# Altium integrated library TI Logic Boundary Scan.IntLib: 169 symbols (part 5 of 5)
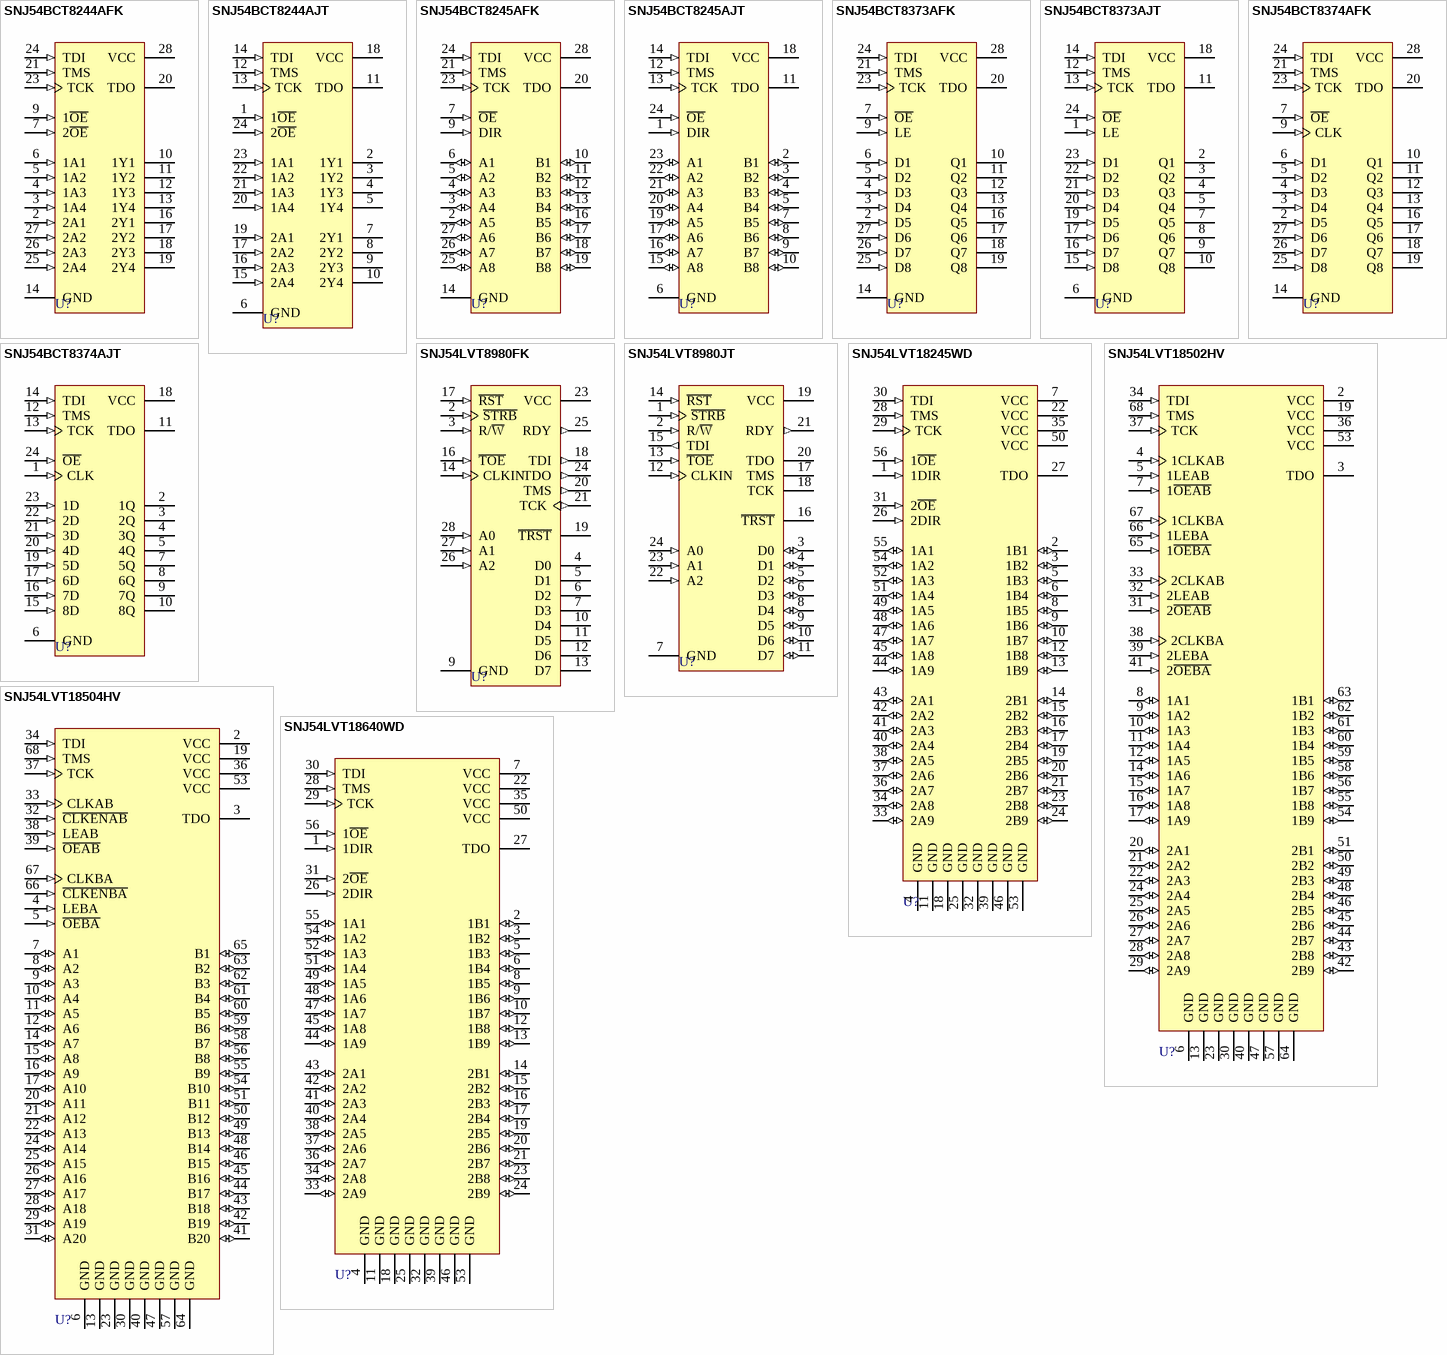
[diagram p16: symbols SNJ54BCT8244AFK to SNJ54LVT18640WD]

## SNJ54LVT18640WD
designator U?
3.3-V ABT Scan Test Device with 18-Bit Inverting Bus Transceiver; Published: 8-Jun-2000; LatestRevisionDate: 06-Jun-2005; LatestRevisionNote: Stylized 3D Model Added.; DatasheetVersion: Aug-1994; PackageVersion: Jan-1998; PackageReference: WD056; Publisher: Altium Limited; PackageDescription: DFP; 56 Leads; Body 18.8 x 9.9 mm (LxW max); Pitch 0.635 mm; Code_JEDEC: MO-146-AB; ComponentLink1Description: Manufacturer Link; ComponentLink1URL: http://www.ti.com/
footprint WD056 (DFP; 56 Leads; Body 18.8 x 9.9 mm (LxW max); Pitch 0.635 mm)
3D model WD056 (DFP; 56 Leads; Body 18.8 x 9.9 mm (LxW max); Pitch 0.635 mm)
signal-integrity model SNJ54LVT18640WD
pins: 1 1DIR (in), 2 1B1 (io), 3 1B2 (io), 4 GND (power), 5 1B3 (io), 6 1B4 (io), 7 VCC (power), 8 1B5 (io), 9 1B6 (io), 10 1B7 (io), 11 GND (power), 12 1B8 (io), 13 1B9 (io), 14 2B1 (io), 15 2B2 (io), 16 2B3 (io), 17 2B4 (io), 18 GND (power), 19 2B5 (io), 20 2B6 (io), 21 2B7 (io), 22 VCC (power), 23 2B8 (io), 24 2B9 (io), 25 GND (power), 26 2DIR (in), 27 TDO (hiz), 28 TMS (in), 29 TCK (in), 30 TDI (in), 31 2~{OE} (in), 32 GND (power), 33 2A9 (io), 34 2A8 (io), 35 VCC (power), 36 2A7 (io), 37 2A6 (io), 38 2A5 (io), 39 GND (power), 40 2A4 (io), 41 2A3 (io), 42 2A2 (io), 43 2A1 (io), 44 1A9 (io), 45 1A8 (io), 46 GND (power), 47 1A7 (io), 48 1A6 (io), 49 1A5 (io), 50 VCC (power), 51 1A4 (io), 52 1A3 (io), 53 GND (power), 54 1A2 (io), 55 1A1 (io), 56 1~{OE} (in)

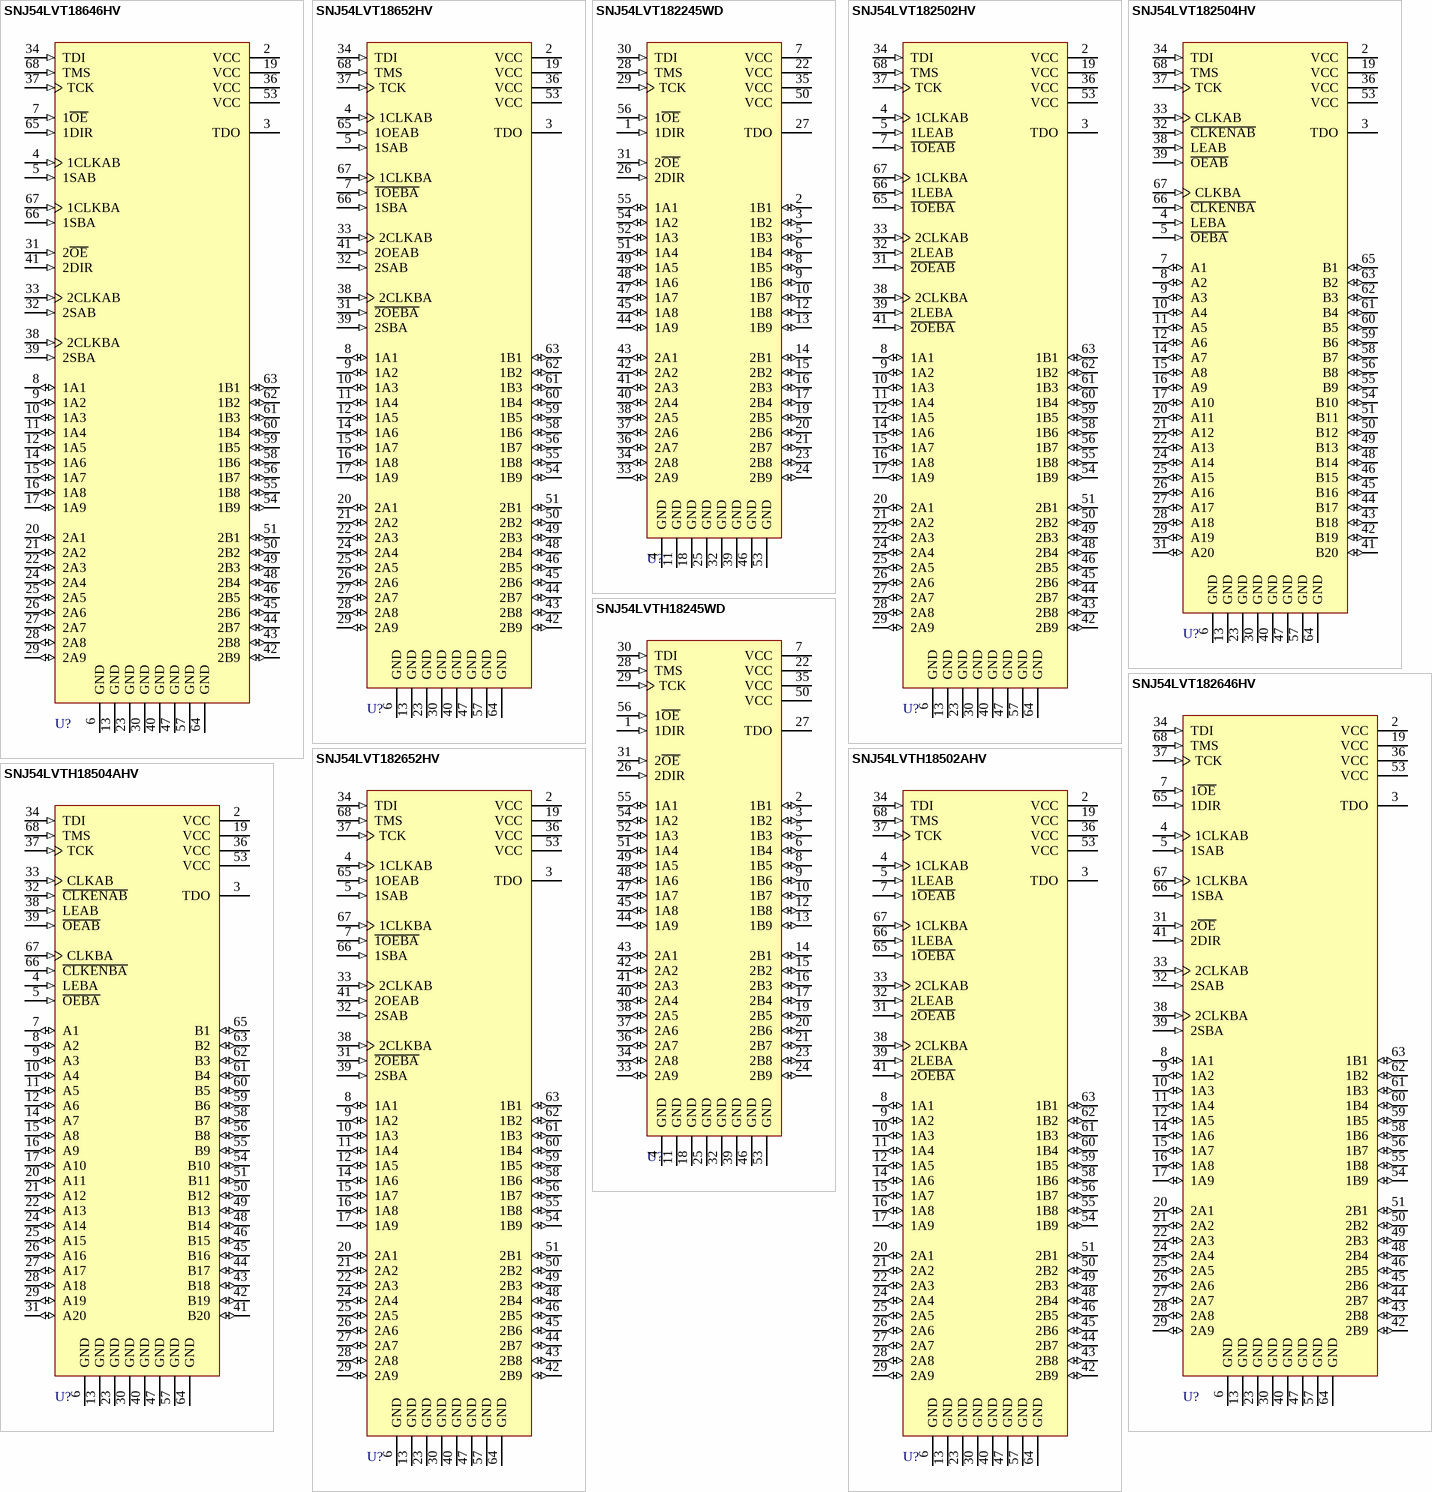
[diagram p10: symbols SNJ54LVT18646HV to SNJ54LVTH18504AHV]

## SNJ54LVT18646HV
designator U?
3.3-V ABT Scan Test Device with 18-Bit Transceiver and Register; Note: Pins 1, 18, 35 and 52 - No Connection and not drawn; Published: 8-Jun-2000; LatestRevisionDate: 13-Apr-2006; LatestRevisionNote: IPC-7351 Footprint Added.; DatasheetVersion: Jul-1994; PackageVersion: Oct-1996; PackageReference: HV068C; Publisher: Altium Limited; PackageDescription: 68-Pin Ceramic Quad Flat Pack 0.635 mm Pitch; ComponentLink1Description: Manufacturer Link; ComponentLink1URL: http://www.ti.com/
footprint HV068C_N (CQFP, 68-Leads, Body 12.5x12.5mm; Pitch 0.635mm, Gullwing Leadform, IPC Medium Density)
footprint HV068C_L (CQFP, 68-Leads, Body 12.5x12.5mm; Pitch 0.635mm, Gullwing Leadform, IPC High Density)
footprint HV068C_M (CQFP, 68-Leads, Body 12.5x12.5mm; Pitch 0.635mm, Gullwing Leadform, IPC Low Density)
3D model SNJ54LVT18646-HV068 (68-Pin Ceramic Quad Flat Pack 0.635 mm Pitch)
signal-integrity model SNJ54LVT18646HV
pins: 2 VCC (power), 3 TDO (hiz), 4 1CLKAB (in), 5 1SAB (in), 6 GND (power), 7 1~{OE} (in), 8 1A1 (io), 9 1A2 (io), 10 1A3 (io), 11 1A4 (io), 12 1A5 (io), 13 GND (power), 14 1A6 (io), 15 1A7 (io), 16 1A8 (io), 17 1A9 (io), 19 VCC (power), 20 2A1 (io), 21 2A2 (io), 22 2A3 (io), 23 GND (power), 24 2A4 (io), 25 2A5 (io), 26 2A6 (io), 27 2A7 (io), 28 2A8 (io), 29 2A9 (io), 30 GND (power), 31 2~{OE} (in), 32 2SAB (in), 33 2CLKAB (in), 34 TDI (in), 36 VCC (power), 37 TCK (in), 38 2CLKBA (in), 39 2SBA (in), 40 GND (power), 41 2DIR (in), 42 2B9 (io), 43 2B8 (io), 44 2B7 (io), 45 2B6 (io), 46 2B5 (io), 47 GND (power), 48 2B4 (io), 49 2B3 (io), 50 2B2 (io), 51 2B1 (io), 53 VCC (power), 54 1B9 (io), 55 1B8 (io), 56 1B7 (io), 57 GND (power), 58 1B6 (io), 59 1B5 (io), 60 1B4 (io), 61 1B3 (io), 62 1B2 (io), 63 1B1 (io), 64 GND (power), 65 1DIR (in), 66 1SBA (in), 67 1CLKBA (in), 68 TMS (in)

## SNJ54LVT18652HV
designator U?
3.3-V ABT Scan Test Device with 18-Bit Transceivers and Registers; Note: Pins 1, 18, 35 and 52 - No Connection and not drawn; Published: 8-Jun-2000; LatestRevisionDate: 13-Apr-2006; LatestRevisionNote: IPC-7351 Footprint Added.; DatasheetVersion: Jul-1994; PackageVersion: Oct-1996; PackageReference: HV068C; Publisher: Altium Limited; PackageDescription: 68-Pin Ceramic Quad Flat Pack 0.635 mm Pitch; ComponentLink1Description: Manufacturer Link; ComponentLink1URL: http://www.ti.com/
footprint HV068C_N (CQFP, 68-Leads, Body 12.5x12.5mm; Pitch 0.635mm, Gullwing Leadform, IPC Medium Density)
footprint HV068C_L (CQFP, 68-Leads, Body 12.5x12.5mm; Pitch 0.635mm, Gullwing Leadform, IPC High Density)
footprint HV068C_M (CQFP, 68-Leads, Body 12.5x12.5mm; Pitch 0.635mm, Gullwing Leadform, IPC Low Density)
3D model SNJ54LVT18652-HV068 (68-Pin Ceramic Quad Flat Pack 0.635 mm Pitch)
signal-integrity model SNJ54LVT18652HV
pins: 2 VCC (power), 3 TDO (hiz), 4 1CLKAB (in), 5 1SAB (in), 6 GND (power), 7 ~{1OEBA} (in), 8 1A1 (io), 9 1A2 (io), 10 1A3 (io), 11 1A4 (io), 12 1A5 (io), 13 GND (power), 14 1A6 (io), 15 1A7 (io), 16 1A8 (io), 17 1A9 (io), 19 VCC (power), 20 2A1 (io), 21 2A2 (io), 22 2A3 (io), 23 GND (power), 24 2A4 (io), 25 2A5 (io), 26 2A6 (io), 27 2A7 (io), 28 2A8 (io), 29 2A9 (io), 30 GND (power), 31 ~{2OEBA} (in), 32 2SAB (in), 33 2CLKAB (in), 34 TDI (in), 36 VCC (power), 37 TCK (in), 38 2CLKBA (in), 39 2SBA (in), 40 GND (power), 41 2OEAB (in), 42 2B9 (io), 43 2B8 (io), 44 2B7 (io), 45 2B6 (io), 46 2B5 (io), 47 GND (power), 48 2B4 (io), 49 2B3 (io), 50 2B2 (io), 51 2B1 (io), 53 VCC (power), 54 1B9 (io), 55 1B8 (io), 56 1B7 (io), 57 GND (power), 58 1B6 (io), 59 1B5 (io), 60 1B4 (io), 61 1B3 (io), 62 1B2 (io), 63 1B1 (io), 64 GND (power), 65 1OEAB (in), 66 1SBA (in), 67 1CLKBA (in), 68 TMS (in)

## SNJ54LVT182245WD
designator U?
3.3-V ABT Scan Test Device with 18-Bit Bus Transceiver; Published: 8-Jun-2000; LatestRevisionDate: 06-Jun-2005; LatestRevisionNote: Stylized 3D Model Added.; DatasheetVersion: Aug-1994; PackageVersion: Jan-1998; PackageReference: WD056; Publisher: Altium Limited; PackageDescription: DFP; 56 Leads; Body 18.8 x 9.9 mm (LxW max); Pitch 0.635 mm; Code_JEDEC: MO-146-AB; ComponentLink1Description: Manufacturer Link; ComponentLink1URL: http://www.ti.com/
footprint WD056 (DFP; 56 Leads; Body 18.8 x 9.9 mm (LxW max); Pitch 0.635 mm)
3D model WD056 (DFP; 56 Leads; Body 18.8 x 9.9 mm (LxW max); Pitch 0.635 mm)
signal-integrity model SNJ54LVT182245WD
pins: 1 1DIR (in), 2 1B1 (io), 3 1B2 (io), 4 GND (power), 5 1B3 (io), 6 1B4 (io), 7 VCC (power), 8 1B5 (io), 9 1B6 (io), 10 1B7 (io), 11 GND (power), 12 1B8 (io), 13 1B9 (io), 14 2B1 (io), 15 2B2 (io), 16 2B3 (io), 17 2B4 (io), 18 GND (power), 19 2B5 (io), 20 2B6 (io), 21 2B7 (io), 22 VCC (power), 23 2B8 (io), 24 2B9 (io), 25 GND (power), 26 2DIR (in), 27 TDO (hiz), 28 TMS (in), 29 TCK (in), 30 TDI (in), 31 2~{OE} (in), 32 GND (power), 33 2A9 (io), 34 2A8 (io), 35 VCC (power), 36 2A7 (io), 37 2A6 (io), 38 2A5 (io), 39 GND (power), 40 2A4 (io), 41 2A3 (io), 42 2A2 (io), 43 2A1 (io), 44 1A9 (io), 45 1A8 (io), 46 GND (power), 47 1A7 (io), 48 1A6 (io), 49 1A5 (io), 50 VCC (power), 51 1A4 (io), 52 1A3 (io), 53 GND (power), 54 1A2 (io), 55 1A1 (io), 56 1~{OE} (in)

## SNJ54LVT182502HV
designator U?
3.3-V ABT Scan Test Device with 18-Bit Universal Bus Transceiver; Note: Pins 1, 18, 35 and 52 - No Connection and not drawn; Published: 8-Jun-2000; LatestRevisionDate: 13-Apr-2006; LatestRevisionNote: IPC-7351 Footprint Added.; DatasheetVersion: Jul-1994; PackageVersion: Oct-1996; PackageReference: HV068C; Publisher: Altium Limited; PackageDescription: 68-Pin Ceramic Quad Flat Pack 0.635 mm Pitch; ComponentLink1Description: Manufacturer Link; ComponentLink1URL: http://www.ti.com/
footprint HV068C_N (CQFP, 68-Leads, Body 12.5x12.5mm; Pitch 0.635mm, Gullwing Leadform, IPC Medium Density)
footprint HV068C_L (CQFP, 68-Leads, Body 12.5x12.5mm; Pitch 0.635mm, Gullwing Leadform, IPC High Density)
footprint HV068C_M (CQFP, 68-Leads, Body 12.5x12.5mm; Pitch 0.635mm, Gullwing Leadform, IPC Low Density)
3D model SNJ54LVT182502-HV068 (68-Pin Ceramic Quad Flat Pack 0.635 mm Pitch)
signal-integrity model SNJ54LVT182502HV
pins: 2 VCC (power), 3 TDO (hiz), 4 1CLKAB (in), 5 1LEAB (in), 6 GND (power), 7 ~{1OEAB} (in), 8 1A1 (io), 9 1A2 (io), 10 1A3 (io), 11 1A4 (io), 12 1A5 (io), 13 GND (power), 14 1A6 (io), 15 1A7 (io), 16 1A8 (io), 17 1A9 (io), 19 VCC (power), 20 2A1 (io), 21 2A2 (io), 22 2A3 (io), 23 GND (power), 24 2A4 (io), 25 2A5 (io), 26 2A6 (io), 27 2A7 (io), 28 2A8 (io), 29 2A9 (io), 30 GND (power), 31 ~{2OEAB} (in), 32 2LEAB (in), 33 2CLKAB (in), 34 TDI (in), 36 VCC (power), 37 TCK (in), 38 2CLKBA (in), 39 2LEBA (in), 40 GND (power), 41 ~{2OEBA} (in), 42 2B9 (io), 43 2B8 (io), 44 2B7 (io), 45 2B6 (io), 46 2B5 (io), 47 GND (power), 48 2B4 (io), 49 2B3 (io), 50 2B2 (io), 51 2B1 (io), 53 VCC (power), 54 1B9 (io), 55 1B8 (io), 56 1B7 (io), 57 GND (power), 58 1B6 (io), 59 1B5 (io), 60 1B4 (io), 61 1B3 (io), 62 1B2 (io), 63 1B1 (io), 64 GND (power), 65 ~{1OEBA} (in), 66 1LEBA (in), 67 1CLKBA (in), 68 TMS (in)

## SNJ54LVT182504HV
designator U?
3.3-V ABT Scan Test Device with 20-Bit Universal Bus Transceiver; Note: Pins 1, 18, 35 and 52 - No Connection and not drawn; Published: 8-Jun-2000; LatestRevisionDate: 13-Apr-2006; LatestRevisionNote: IPC-7351 Footprint Added.; DatasheetVersion: Jul-1994; PackageVersion: Oct-1996; PackageReference: HV068C; Publisher: Altium Limited; PackageDescription: 68-Pin Ceramic Quad Flat Pack 0.635 mm Pitch; ComponentLink1Description: Manufacturer Link; ComponentLink1URL: http://www.ti.com/
footprint HV068C_N (CQFP, 68-Leads, Body 12.5x12.5mm; Pitch 0.635mm, Gullwing Leadform, IPC Medium Density)
footprint HV068C_L (CQFP, 68-Leads, Body 12.5x12.5mm; Pitch 0.635mm, Gullwing Leadform, IPC High Density)
footprint HV068C_M (CQFP, 68-Leads, Body 12.5x12.5mm; Pitch 0.635mm, Gullwing Leadform, IPC Low Density)
3D model SNJ54LVT182504-HV068 (68-Pin Ceramic Quad Flat Pack 0.635 mm Pitch)
signal-integrity model SNJ54LVT182504HV
pins: 2 VCC (power), 3 TDO (hiz), 4 LEBA (in), 5 ~{OEBA} (in), 6 GND (power), 7 A1 (io), 8 A2 (io), 9 A3 (io), 10 A4 (io), 11 A5 (io), 12 A6 (io), 13 GND (power), 14 A7 (io), 15 A8 (io), 16 A9 (io), 17 A10 (io), 19 VCC (power), 20 A11 (io), 21 A12 (io), 22 A13 (io), 23 GND (power), 24 A14 (io), 25 A15 (io), 26 A16 (io), 27 A17 (io), 28 A18 (io), 29 A19 (io), 30 GND (power), 31 A20 (io), 32 ~{CLKENAB} (in), 33 CLKAB (in), 34 TDI (in), 36 VCC (power), 37 TCK (in), 38 LEAB (in), 39 ~{OEAB} (in), 40 GND (power), 41 B20 (io), 42 B19 (io), 43 B18 (io), 44 B17 (io), 45 B16 (io), 46 B15 (io), 47 GND (power), 48 B14 (io), 49 B13 (io), 50 B12 (io), 51 B11 (io), 53 VCC (power), 54 B10 (io), 55 B9 (io), 56 B8 (io), 57 GND (power), 58 B7 (io), 59 B6 (io), 60 B5 (io), 61 B4 (io), 62 B3 (io), 63 B2 (io), 64 GND (power), 65 B1 (io), 66 ~{CLKENBA} (in), 67 CLKBA (in), 68 TMS (in)

## SNJ54LVT182646HV
designator U?
3.3-V ABT Scan Test Device with 18-Bit Transceiver and Register; Note: Pins 1, 18, 35 and 52 - No Connection and not drawn; Published: 8-Jun-2000; LatestRevisionDate: 13-Apr-2006; LatestRevisionNote: IPC-7351 Footprint Added.; DatasheetVersion: Jul-1994; PackageVersion: Oct-1996; PackageReference: HV068C; Publisher: Altium Limited; PackageDescription: 68-Pin Ceramic Quad Flat Pack 0.635 mm Pitch; ComponentLink1Description: Manufacturer Link; ComponentLink1URL: http://www.ti.com/
footprint HV068C_N (CQFP, 68-Leads, Body 12.5x12.5mm; Pitch 0.635mm, Gullwing Leadform, IPC Medium Density)
footprint HV068C_L (CQFP, 68-Leads, Body 12.5x12.5mm; Pitch 0.635mm, Gullwing Leadform, IPC High Density)
footprint HV068C_M (CQFP, 68-Leads, Body 12.5x12.5mm; Pitch 0.635mm, Gullwing Leadform, IPC Low Density)
3D model SNJ54LVT182646-HV068 (68-Pin Ceramic Quad Flat Pack 0.635 mm Pitch)
signal-integrity model SNJ54LVT182646HV
pins: 2 VCC (power), 3 TDO (hiz), 4 1CLKAB (in), 5 1SAB (in), 6 GND (power), 7 1~{OE} (in), 8 1A1 (io), 9 1A2 (io), 10 1A3 (io), 11 1A4 (io), 12 1A5 (io), 13 GND (power), 14 1A6 (io), 15 1A7 (io), 16 1A8 (io), 17 1A9 (io), 19 VCC (power), 20 2A1 (io), 21 2A2 (io), 22 2A3 (io), 23 GND (power), 24 2A4 (io), 25 2A5 (io), 26 2A6 (io), 27 2A7 (io), 28 2A8 (io), 29 2A9 (io), 30 GND (power), 31 2~{OE} (in), 32 2SAB (in), 33 2CLKAB (in), 34 TDI (in), 36 VCC (power), 37 TCK (in), 38 2CLKBA (in), 39 2SBA (in), 40 GND (power), 41 2DIR (in), 42 2B9 (io), 43 2B8 (io), 44 2B7 (io), 45 2B6 (io), 46 2B5 (io), 47 GND (power), 48 2B4 (io), 49 2B3 (io), 50 2B2 (io), 51 2B1 (io), 53 VCC (power), 54 1B9 (io), 55 1B8 (io), 56 1B7 (io), 57 GND (power), 58 1B6 (io), 59 1B5 (io), 60 1B4 (io), 61 1B3 (io), 62 1B2 (io), 63 1B1 (io), 64 GND (power), 65 1DIR (in), 66 1SBA (in), 67 1CLKBA (in), 68 TMS (in)

## SNJ54LVT182652HV
designator U?
3.3-V ABT Scan Test Device with 18-Bit Transceivers and Registers; Note: Pins 1, 18, 35 and 52 - No Connection and not drawn; Published: 8-Jun-2000; LatestRevisionDate: 13-Apr-2006; LatestRevisionNote: IPC-7351 Footprint Added.; DatasheetVersion: Jul-1994; PackageVersion: Oct-1996; PackageReference: HV068C; Publisher: Altium Limited; PackageDescription: 68-Pin Ceramic Quad Flat Pack 0.635 mm Pitch; ComponentLink1Description: Manufacturer Link; ComponentLink1URL: http://www.ti.com/
footprint HV068C_N (CQFP, 68-Leads, Body 12.5x12.5mm; Pitch 0.635mm, Gullwing Leadform, IPC Medium Density)
footprint HV068C_L (CQFP, 68-Leads, Body 12.5x12.5mm; Pitch 0.635mm, Gullwing Leadform, IPC High Density)
footprint HV068C_M (CQFP, 68-Leads, Body 12.5x12.5mm; Pitch 0.635mm, Gullwing Leadform, IPC Low Density)
3D model SNJ54LVT182652-HV068 (68-Pin Ceramic Quad Flat Pack 0.635 mm Pitch)
signal-integrity model SNJ54LVT182652HV
pins: 2 VCC (power), 3 TDO (hiz), 4 1CLKAB (in), 5 1SAB (in), 6 GND (power), 7 ~{1OEBA} (in), 8 1A1 (io), 9 1A2 (io), 10 1A3 (io), 11 1A4 (io), 12 1A5 (io), 13 GND (power), 14 1A6 (io), 15 1A7 (io), 16 1A8 (io), 17 1A9 (io), 19 VCC (power), 20 2A1 (io), 21 2A2 (io), 22 2A3 (io), 23 GND (power), 24 2A4 (io), 25 2A5 (io), 26 2A6 (io), 27 2A7 (io), 28 2A8 (io), 29 2A9 (io), 30 GND (power), 31 ~{2OEBA} (in), 32 2SAB (in), 33 2CLKAB (in), 34 TDI (in), 36 VCC (power), 37 TCK (in), 38 2CLKBA (in), 39 2SBA (in), 40 GND (power), 41 2OEAB (in), 42 2B9 (io), 43 2B8 (io), 44 2B7 (io), 45 2B6 (io), 46 2B5 (io), 47 GND (power), 48 2B4 (io), 49 2B3 (io), 50 2B2 (io), 51 2B1 (io), 53 VCC (power), 54 1B9 (io), 55 1B8 (io), 56 1B7 (io), 57 GND (power), 58 1B6 (io), 59 1B5 (io), 60 1B4 (io), 61 1B3 (io), 62 1B2 (io), 63 1B1 (io), 64 GND (power), 65 1OEAB (in), 66 1SBA (in), 67 1CLKBA (in), 68 TMS (in)

## SNJ54LVTH18245WD
designator U?
3.3-V ABT Scan Test Device with 18-Bit Bus Transceiver; Published: 8-Jun-2000; LatestRevisionDate: 06-Jun-2005; LatestRevisionNote: Stylized 3D Model Added.; DatasheetVersion: Jul-1996; PackageVersion: Jan-1998; PackageReference: WD056; Publisher: Altium Limited; PackageDescription: DFP; 56 Leads; Body 18.8 x 9.9 mm (LxW max); Pitch 0.635 mm; Code_JEDEC: MO-146-AB; ComponentLink1Description: Manufacturer Link; ComponentLink1URL: http://www.ti.com/
footprint WD056 (DFP; 56 Leads; Body 18.8 x 9.9 mm (LxW max); Pitch 0.635 mm)
3D model WD056 (DFP; 56 Leads; Body 18.8 x 9.9 mm (LxW max); Pitch 0.635 mm)
pins: 1 1DIR (in), 2 1B1 (io), 3 1B2 (io), 4 GND (power), 5 1B3 (io), 6 1B4 (io), 7 VCC (power), 8 1B5 (io), 9 1B6 (io), 10 1B7 (io), 11 GND (power), 12 1B8 (io), 13 1B9 (io), 14 2B1 (io), 15 2B2 (io), 16 2B3 (io), 17 2B4 (io), 18 GND (power), 19 2B5 (io), 20 2B6 (io), 21 2B7 (io), 22 VCC (power), 23 2B8 (io), 24 2B9 (io), 25 GND (power), 26 2DIR (in), 27 TDO (hiz), 28 TMS (in), 29 TCK (in), 30 TDI (in), 31 2~{OE} (in), 32 GND (power), 33 2A9 (io), 34 2A8 (io), 35 VCC (power), 36 2A7 (io), 37 2A6 (io), 38 2A5 (io), 39 GND (power), 40 2A4 (io), 41 2A3 (io), 42 2A2 (io), 43 2A1 (io), 44 1A9 (io), 45 1A8 (io), 46 GND (power), 47 1A7 (io), 48 1A6 (io), 49 1A5 (io), 50 VCC (power), 51 1A4 (io), 52 1A3 (io), 53 GND (power), 54 1A2 (io), 55 1A1 (io), 56 1~{OE} (in)

## SNJ54LVTH18502AHV
designator U?
3.3-V ABT Scan Test Device with 18-Bit Universal Bus Transceiver; Note: Pin(s) 1,18,35,52 "No Connection" and not drawn.; Published: 8-Jun-2000; LatestRevisionDate: 13-Apr-2006; LatestRevisionNote: IPC-7351 Footprint Added.; DatasheetVersion: Dec-1996; PackageVersion: Oct-1996; PackageReference: HV068C; Publisher: Altium Limited; PackageDescription: 68-Pin Ceramic Quad Flat Pack 0.635 mm Pitch; ComponentLink1Description: Manufacturer Link; ComponentLink1URL: http://www.ti.com/
footprint HV068C_N (CQFP, 68-Leads, Body 12.5x12.5mm; Pitch 0.635mm, Gullwing Leadform, IPC Medium Density)
footprint HV068C_L (CQFP, 68-Leads, Body 12.5x12.5mm; Pitch 0.635mm, Gullwing Leadform, IPC High Density)
footprint HV068C_M (CQFP, 68-Leads, Body 12.5x12.5mm; Pitch 0.635mm, Gullwing Leadform, IPC Low Density)
3D model SNJ54LVTH18502A-HV068 (68-Pin Ceramic Quad Flat Pack 0.635 mm Pitch)
pins: 2 VCC (power), 3 TDO (hiz), 4 1CLKAB (in), 5 1LEAB (in), 6 GND (power), 7 1~{OEAB} (in), 8 1A1 (io), 9 1A2 (io), 10 1A3 (io), 11 1A4 (io), 12 1A5 (io), 13 GND (power), 14 1A6 (io), 15 1A7 (io), 16 1A8 (io), 17 1A9 (io), 19 VCC (power), 20 2A1 (io), 21 2A2 (io), 22 2A3 (io), 23 GND (power), 24 2A4 (io), 25 2A5 (io), 26 2A6 (io), 27 2A7 (io), 28 2A8 (io), 29 2A9 (io), 30 GND (power), 31 2~{OEAB} (in), 32 2LEAB (in), 33 2CLKAB (in), 34 TDI (in), 36 VCC (power), 37 TCK (in), 38 2CLKBA (in), 39 2LEBA (in), 40 GND (power), 41 2~{OEBA} (in), 42 2B9 (io), 43 2B8 (io), 44 2B7 (io), 45 2B6 (io), 46 2B5 (io), 47 GND (power), 48 2B4 (io), 49 2B3 (io), 50 2B2 (io), 51 2B1 (io), 53 VCC (power), 54 1B9 (io), 55 1B8 (io), 56 1B7 (io), 57 GND (power), 58 1B6 (io), 59 1B5 (io), 60 1B4 (io), 61 1B3 (io), 62 1B2 (io), 63 1B1 (io), 64 GND (power), 65 1~{OEBA} (in), 66 1LEBA (in), 67 1CLKBA (in), 68 TMS (in)

## SNJ54LVTH18504AHV
designator U?
3.3-V ABT Scan Test Device with 20-Bit Universal Bus Transceiver; Note: Pins 1, 18, 35 and 52 - No Connection and not drawn; Published: 8-Jun-2000; LatestRevisionDate: 13-Apr-2006; LatestRevisionNote: IPC-7351 Footprint Added.; DatasheetVersion: Jun-1997; PackageVersion: Oct-1996; PackageReference: HV068C; Publisher: Altium Limited; PackageDescription: 68-Pin Ceramic Quad Flat Pack 0.635 mm Pitch; ComponentLink1Description: Manufacturer Link; ComponentLink1URL: http://www.ti.com/
footprint HV068C_N (CQFP, 68-Leads, Body 12.5x12.5mm; Pitch 0.635mm, Gullwing Leadform, IPC Medium Density)
footprint HV068C_L (CQFP, 68-Leads, Body 12.5x12.5mm; Pitch 0.635mm, Gullwing Leadform, IPC High Density)
footprint HV068C_M (CQFP, 68-Leads, Body 12.5x12.5mm; Pitch 0.635mm, Gullwing Leadform, IPC Low Density)
3D model SNJ54LVTH18504A-HV068 (68-Pin Ceramic Quad Flat Pack 0.635 mm Pitch)
pins: 2 VCC (power), 3 TDO (hiz), 4 LEBA (in), 5 ~{OEBA} (in), 6 GND (power), 7 A1 (io), 8 A2 (io), 9 A3 (io), 10 A4 (io), 11 A5 (io), 12 A6 (io), 13 GND (power), 14 A7 (io), 15 A8 (io), 16 A9 (io), 17 A10 (io), 19 VCC (power), 20 A11 (io), 21 A12 (io), 22 A13 (io), 23 GND (power), 24 A14 (io), 25 A15 (io), 26 A16 (io), 27 A17 (io), 28 A18 (io), 29 A19 (io), 30 GND (power), 31 A20 (io), 32 ~{CLKENAB} (in), 33 CLKAB (in), 34 TDI (in), 36 VCC (power), 37 TCK (in), 38 LEAB (in), 39 ~{OEAB} (in), 40 GND (power), 41 B20 (io), 42 B19 (io), 43 B18 (io), 44 B17 (io), 45 B16 (io), 46 B15 (io), 47 GND (power), 48 B14 (io), 49 B13 (io), 50 B12 (io), 51 B11 (io), 53 VCC (power), 54 B10 (io), 55 B9 (io), 56 B8 (io), 57 GND (power), 58 B7 (io), 59 B6 (io), 60 B5 (io), 61 B4 (io), 62 B3 (io), 63 B2 (io), 64 GND (power), 65 B1 (io), 66 ~{CLKENBA} (in), 67 CLKBA (in), 68 TMS (in)

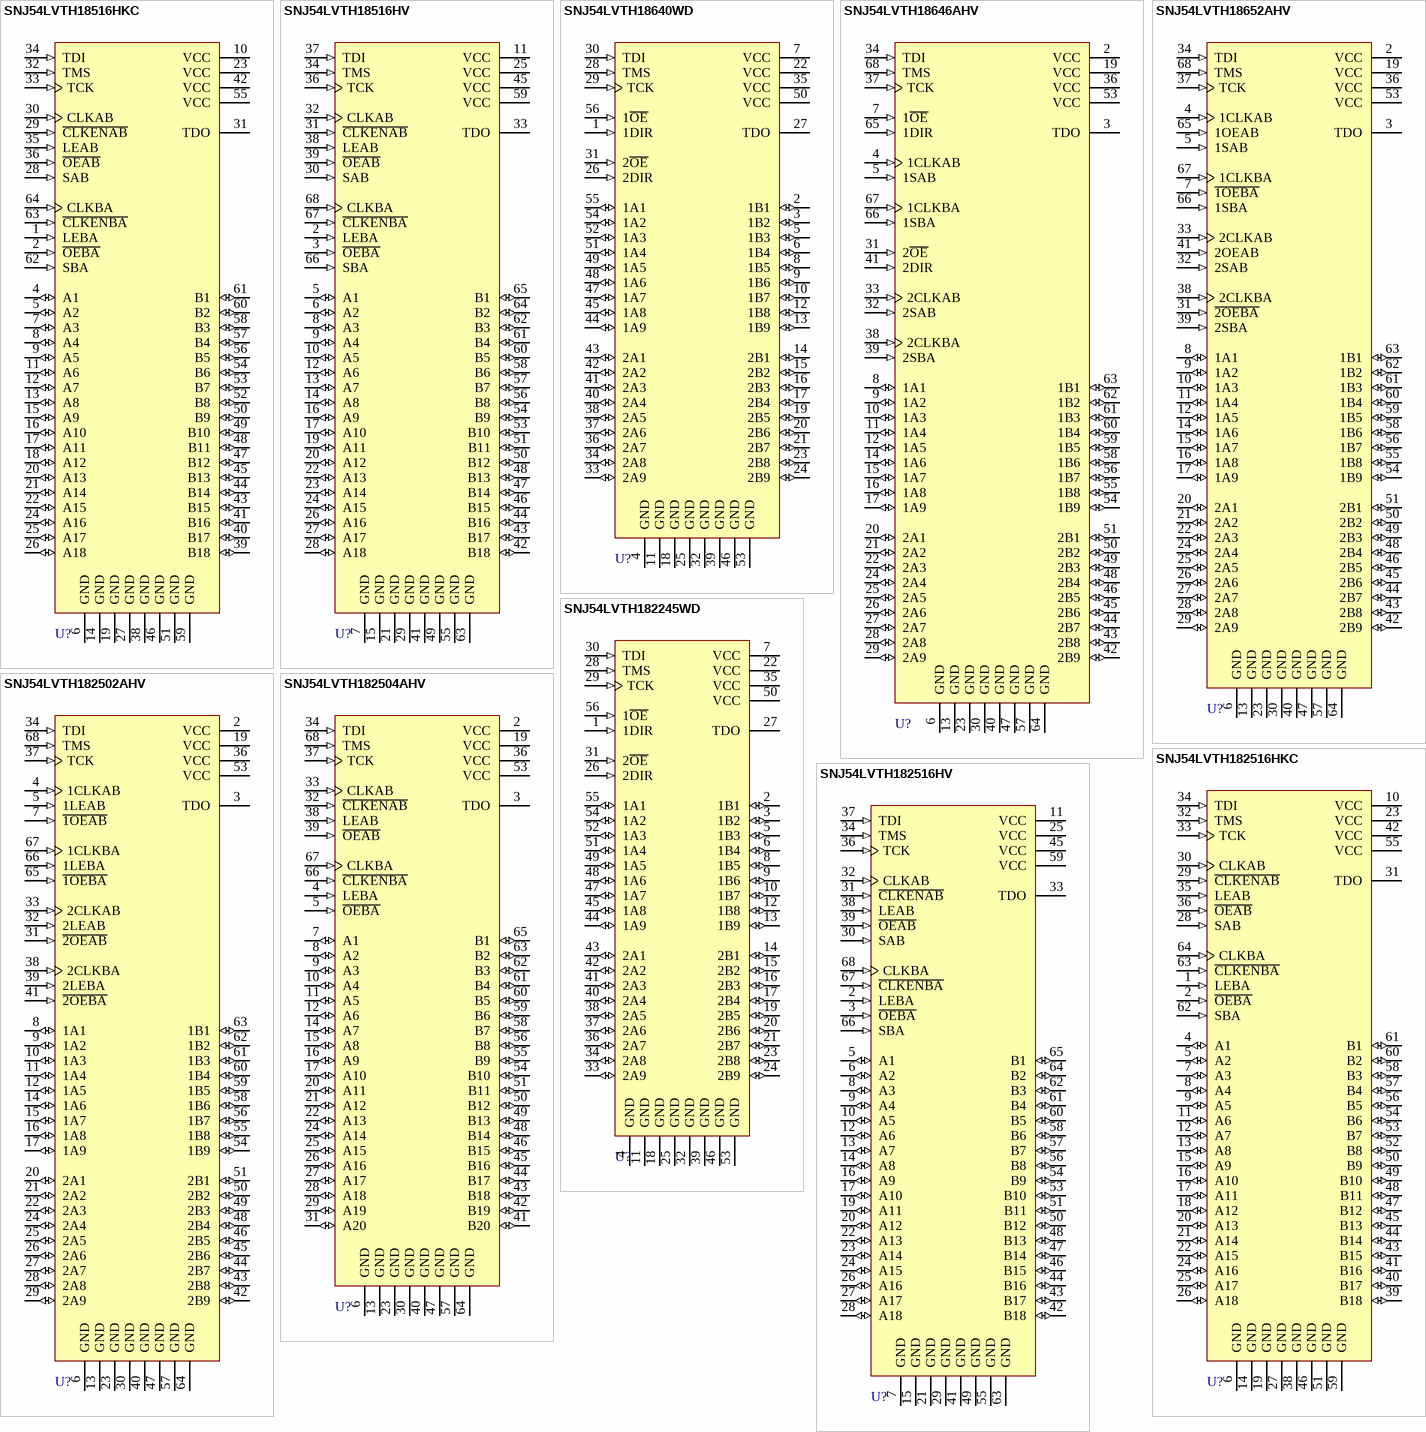
[diagram p11: symbols SNJ54LVTH18516HKC to SNJ54LVTH182516HV]

## SNJ54LVTH18516HKC
designator U?
3.3-V ABT Scan Test Device with 18-Bit Universal Bus Transceivers; Note: Pins 3 and 37 - No Connection and not drawn; Published: 8-Jun-2000; LatestRevisionDate: 06-Jun-2005; LatestRevisionNote: Stylized 3D Model Added.; DatasheetVersion: Jun-1997; PackageVersion: Jan-1997; PackageReference: HKC064; Publisher: Altium Limited; PackageDescription: DFP; 64 Leads; Body 19.4 x 11.3 mm (LxW max); Pitch 0.5 mm; ComponentLink1Description: Manufacturer Link; ComponentLink1URL: http://www.ti.com/
footprint HKC064 (DFP; 64 Leads; Body 19.4 x 11.3 mm (LxW max); Pitch 0.5 mm)
3D model HKC064 (DFP; 64 Leads; Body 19.4 x 11.3 mm (LxW max); Pitch 0.5 mm)
pins: 1 LEBA (in), 2 ~{OEBA} (in), 4 A1 (io), 5 A2 (io), 6 GND (power), 7 A3 (io), 8 A4 (io), 9 A5 (io), 10 VCC (power), 11 A6 (io), 12 A7 (io), 13 A8 (io), 14 GND (power), 15 A9 (io), 16 A10 (io), 17 A11 (io), 18 A12 (io), 19 GND (power), 20 A13 (io), 21 A14 (io), 22 A15 (io), 23 VCC (power), 24 A16 (io), 25 A17 (io), 26 A18 (io), 27 GND (power), 28 SAB (in), 29 ~{CLKENAB} (in), 30 CLKAB (in), 31 TDO (hiz), 32 TMS (in), 33 TCK (in), 34 TDI (in), 35 LEAB (in), 36 ~{OEAB} (in), 38 GND (power), 39 B18 (io), 40 B17 (io), 41 B16 (io), 42 VCC (power), 43 B15 (io), 44 B14 (io), 45 B13 (io), 46 GND (power), 47 B12 (io), 48 B11 (io), 49 B10 (io), 50 B9 (io), 51 GND (power), 52 B8 (io), 53 B7 (io), 54 B6 (io), 55 VCC (power), 56 B5 (io), 57 B4 (io), 58 B3 (io), 59 GND (power), 60 B2 (io), 61 B1 (io), 62 SBA (in), 63 ~{CLKENBA} (in), 64 CLKBA (in)

## SNJ54LVTH18516HV
designator U?
3.3-V ABT Scan Test Device with 18-Bit Universal Bus Transceivers; Note: Pins 1, 4, 18, 35, 40 and 52 - No Connection and not drawn; Published: 8-Jun-2000; LatestRevisionDate: 13-Apr-2006; LatestRevisionNote: IPC-7351 Footprint Added.; DatasheetVersion: Jun-1997; PackageVersion: Oct-1996; PackageReference: HV068C; Publisher: Altium Limited; PackageDescription: 68-Pin Ceramic Quad Flat Pack 0.635 mm Pitch; ComponentLink1Description: Manufacturer Link; ComponentLink1URL: http://www.ti.com/
footprint HV068C_N (CQFP, 68-Leads, Body 12.5x12.5mm; Pitch 0.635mm, Gullwing Leadform, IPC Medium Density)
footprint HV068C_L (CQFP, 68-Leads, Body 12.5x12.5mm; Pitch 0.635mm, Gullwing Leadform, IPC High Density)
footprint HV068C_M (CQFP, 68-Leads, Body 12.5x12.5mm; Pitch 0.635mm, Gullwing Leadform, IPC Low Density)
3D model SNJ54LVTH18516-HV068 (68-Pin Ceramic Quad Flat Pack 0.635 mm Pitch)
pins: 2 LEBA (in), 3 ~{OEBA} (in), 5 A1 (io), 6 A2 (io), 7 GND (power), 8 A3 (io), 9 A4 (io), 10 A5 (io), 11 VCC (power), 12 A6 (io), 13 A7 (io), 14 A8 (io), 15 GND (power), 16 A9 (io), 17 A10 (io), 19 A11 (io), 20 A12 (io), 21 GND (power), 22 A13 (io), 23 A14 (io), 24 A15 (io), 25 VCC (power), 26 A16 (io), 27 A17 (io), 28 A18 (io), 29 GND (power), 30 SAB (in), 31 ~{CLKENAB} (in), 32 CLKAB (in), 33 TDO (hiz), 34 TMS (in), 36 TCK (in), 37 TDI (in), 38 LEAB (in), 39 ~{OEAB} (in), 41 GND (power), 42 B18 (io), 43 B17 (io), 44 B16 (io), 45 VCC (power), 46 B15 (io), 47 B14 (io), 48 B13 (io), 49 GND (power), 50 B12 (io), 51 B11 (io), 53 B10 (io), 54 B9 (io), 55 GND (power), 56 B8 (io), 57 B7 (io), 58 B6 (io), 59 VCC (power), 60 B5 (io), 61 B4 (io), 62 B3 (io), 63 GND (power), 64 B2 (io), 65 B1 (io), 66 SBA (in), 67 ~{CLKENBA} (in), 68 CLKBA (in)

## SNJ54LVTH18640WD
designator U?
3.3-V ABT Scan Test Device with 18-Bit Inverting Bus Transceiver; Published: 8-Jun-2000; LatestRevisionDate: 06-Jun-2005; LatestRevisionNote: Stylized 3D Model Added.; DatasheetVersion: Jul-1996; PackageVersion: Jan-1998; PackageReference: WD056; Publisher: Altium Limited; PackageDescription: DFP; 56 Leads; Body 18.8 x 9.9 mm (LxW max); Pitch 0.635 mm; Code_JEDEC: MO-146-AB; ComponentLink1Description: Manufacturer Link; ComponentLink1URL: http://www.ti.com/
footprint WD056 (DFP; 56 Leads; Body 18.8 x 9.9 mm (LxW max); Pitch 0.635 mm)
3D model WD056 (DFP; 56 Leads; Body 18.8 x 9.9 mm (LxW max); Pitch 0.635 mm)
pins: 1 1DIR (in), 2 1B1 (io), 3 1B2 (io), 4 GND (power), 5 1B3 (io), 6 1B4 (io), 7 VCC (power), 8 1B5 (io), 9 1B6 (io), 10 1B7 (io), 11 GND (power), 12 1B8 (io), 13 1B9 (io), 14 2B1 (io), 15 2B2 (io), 16 2B3 (io), 17 2B4 (io), 18 GND (power), 19 2B5 (io), 20 2B6 (io), 21 2B7 (io), 22 VCC (power), 23 2B8 (io), 24 2B9 (io), 25 GND (power), 26 2DIR (in), 27 TDO (hiz), 28 TMS (in), 29 TCK (in), 30 TDI (in), 31 2~{OE} (in), 32 GND (power), 33 2A9 (io), 34 2A8 (io), 35 VCC (power), 36 2A7 (io), 37 2A6 (io), 38 2A5 (io), 39 GND (power), 40 2A4 (io), 41 2A3 (io), 42 2A2 (io), 43 2A1 (io), 44 1A9 (io), 45 1A8 (io), 46 GND (power), 47 1A7 (io), 48 1A6 (io), 49 1A5 (io), 50 VCC (power), 51 1A4 (io), 52 1A3 (io), 53 GND (power), 54 1A2 (io), 55 1A1 (io), 56 1~{OE} (in)

## SNJ54LVTH18646AHV
designator U?
3.3-V ABT Scan Test Device with 18-Bit Transceiver and Register; Note: Pin(s) 1,18,35,52 "No Connection" and not drawn.; Published: 8-Jun-2000; LatestRevisionDate: 13-Apr-2006; LatestRevisionNote: IPC-7351 Footprint Added.; DatasheetVersion: Jun-1997; PackageVersion: Oct-1996; PackageReference: HV068C; Publisher: Altium Limited; PackageDescription: 68-Pin Ceramic Quad Flat Pack 0.635 mm Pitch; ComponentLink1Description: Manufacturer Link; ComponentLink1URL: http://www.ti.com/
footprint HV068C_N (CQFP, 68-Leads, Body 12.5x12.5mm; Pitch 0.635mm, Gullwing Leadform, IPC Medium Density)
footprint HV068C_L (CQFP, 68-Leads, Body 12.5x12.5mm; Pitch 0.635mm, Gullwing Leadform, IPC High Density)
footprint HV068C_M (CQFP, 68-Leads, Body 12.5x12.5mm; Pitch 0.635mm, Gullwing Leadform, IPC Low Density)
3D model SNJ54LVTH18646A-HV068 (68-Pin Ceramic Quad Flat Pack 0.635 mm Pitch)
pins: 2 VCC (power), 3 TDO (hiz), 4 1CLKAB (in), 5 1SAB (in), 6 GND (power), 7 1~{OE} (in), 8 1A1 (io), 9 1A2 (io), 10 1A3 (io), 11 1A4 (io), 12 1A5 (io), 13 GND (power), 14 1A6 (io), 15 1A7 (io), 16 1A8 (io), 17 1A9 (io), 19 VCC (power), 20 2A1 (io), 21 2A2 (io), 22 2A3 (io), 23 GND (power), 24 2A4 (io), 25 2A5 (io), 26 2A6 (io), 27 2A7 (io), 28 2A8 (io), 29 2A9 (io), 30 GND (power), 31 2~{OE} (in), 32 2SAB (in), 33 2CLKAB (in), 34 TDI (in), 36 VCC (power), 37 TCK (in), 38 2CLKBA (in), 39 2SBA (in), 40 GND (power), 41 2DIR (in), 42 2B9 (io), 43 2B8 (io), 44 2B7 (io), 45 2B6 (io), 46 2B5 (io), 47 GND (power), 48 2B4 (io), 49 2B3 (io), 50 2B2 (io), 51 2B1 (io), 53 VCC (power), 54 1B9 (io), 55 1B8 (io), 56 1B7 (io), 57 GND (power), 58 1B6 (io), 59 1B5 (io), 60 1B4 (io), 61 1B3 (io), 62 1B2 (io), 63 1B1 (io), 64 GND (power), 65 1DIR (in), 66 1SBA (in), 67 1CLKBA (in), 68 TMS (in)

## SNJ54LVTH18652AHV
designator U?
3.3-V ABT Scan Test Device with 18-Bit Transceiver and Register; Note: Pins 1, 18, 35 and 52 - No Connection and not drawn; Published: 8-Jun-2000; LatestRevisionDate: 13-Apr-2006; LatestRevisionNote: IPC-7351 Footprint Added.; DatasheetVersion: Jul-1996; PackageVersion: Oct-1996; PackageReference: HV068C; Publisher: Altium Limited; PackageDescription: 68-Pin Ceramic Quad Flat Pack 0.635 mm Pitch; ComponentLink1Description: Manufacturer Link; ComponentLink1URL: http://www.ti.com/
footprint HV068C_N (CQFP, 68-Leads, Body 12.5x12.5mm; Pitch 0.635mm, Gullwing Leadform, IPC Medium Density)
footprint HV068C_L (CQFP, 68-Leads, Body 12.5x12.5mm; Pitch 0.635mm, Gullwing Leadform, IPC High Density)
footprint HV068C_M (CQFP, 68-Leads, Body 12.5x12.5mm; Pitch 0.635mm, Gullwing Leadform, IPC Low Density)
3D model SNJ54LVTH18652A-HV068 (68-Pin Ceramic Quad Flat Pack 0.635 mm Pitch)
pins: 2 VCC (power), 3 TDO (hiz), 4 1CLKAB (in), 5 1SAB (in), 6 GND (power), 7 ~{1OEBA} (in), 8 1A1 (io), 9 1A2 (io), 10 1A3 (io), 11 1A4 (io), 12 1A5 (io), 13 GND (power), 14 1A6 (io), 15 1A7 (io), 16 1A8 (io), 17 1A9 (io), 19 VCC (power), 20 2A1 (io), 21 2A2 (io), 22 2A3 (io), 23 GND (power), 24 2A4 (io), 25 2A5 (io), 26 2A6 (io), 27 2A7 (io), 28 2A8 (io), 29 2A9 (io), 30 GND (power), 31 ~{2OEBA} (in), 32 2SAB (in), 33 2CLKAB (in), 34 TDI (in), 36 VCC (power), 37 TCK (in), 38 2CLKBA (in), 39 2SBA (in), 40 GND (power), 41 2OEAB (in), 42 2B9 (io), 43 2B8 (io), 44 2B7 (io), 45 2B6 (io), 46 2B5 (io), 47 GND (power), 48 2B4 (io), 49 2B3 (io), 50 2B2 (io), 51 2B1 (io), 53 VCC (power), 54 1B9 (io), 55 1B8 (io), 56 1B7 (io), 57 GND (power), 58 1B6 (io), 59 1B5 (io), 60 1B4 (io), 61 1B3 (io), 62 1B2 (io), 63 1B1 (io), 64 GND (power), 65 1OEAB (in), 66 1SBA (in), 67 1CLKBA (in), 68 TMS (in)

## SNJ54LVTH182245WD
designator U?
3.3-V ABT Scan Test Device with 18-Bit Bus Transceiver; Published: 8-Jun-2000; LatestRevisionDate: 06-Jun-2005; LatestRevisionNote: Stylized 3D Model Added.; DatasheetVersion: Jul-1996; PackageVersion: Jan-1998; PackageReference: WD056; Publisher: Altium Limited; PackageDescription: DFP; 56 Leads; Body 18.8 x 9.9 mm (LxW max); Pitch 0.635 mm; Code_JEDEC: MO-146-AB; ComponentLink1Description: Manufacturer Link; ComponentLink1URL: http://www.ti.com/
footprint WD056 (DFP; 56 Leads; Body 18.8 x 9.9 mm (LxW max); Pitch 0.635 mm)
3D model WD056 (DFP; 56 Leads; Body 18.8 x 9.9 mm (LxW max); Pitch 0.635 mm)
pins: 1 1DIR (in), 2 1B1 (io), 3 1B2 (io), 4 GND (power), 5 1B3 (io), 6 1B4 (io), 7 VCC (power), 8 1B5 (io), 9 1B6 (io), 10 1B7 (io), 11 GND (power), 12 1B8 (io), 13 1B9 (io), 14 2B1 (io), 15 2B2 (io), 16 2B3 (io), 17 2B4 (io), 18 GND (power), 19 2B5 (io), 20 2B6 (io), 21 2B7 (io), 22 VCC (power), 23 2B8 (io), 24 2B9 (io), 25 GND (power), 26 2DIR (in), 27 TDO (hiz), 28 TMS (in), 29 TCK (in), 30 TDI (in), 31 2~{OE} (in), 32 GND (power), 33 2A9 (io), 34 2A8 (io), 35 VCC (power), 36 2A7 (io), 37 2A6 (io), 38 2A5 (io), 39 GND (power), 40 2A4 (io), 41 2A3 (io), 42 2A2 (io), 43 2A1 (io), 44 1A9 (io), 45 1A8 (io), 46 GND (power), 47 1A7 (io), 48 1A6 (io), 49 1A5 (io), 50 VCC (power), 51 1A4 (io), 52 1A3 (io), 53 GND (power), 54 1A2 (io), 55 1A1 (io), 56 1~{OE} (in)

## SNJ54LVTH182502AHV
designator U?
3.3-V ABT Scan Test Device with 18-Bit Universal Bus Transceiver; Note: Pins 1, 18, 35 and 52 - No Connection and not drawn; Published: 8-Jun-2000; LatestRevisionDate: 13-Apr-2006; LatestRevisionNote: IPC-7351 Footprint Added.; DatasheetVersion: Dec-1996; PackageVersion: Oct-1996; PackageReference: HV068C; Publisher: Altium Limited; PackageDescription: 68-Pin Ceramic Quad Flat Pack 0.635 mm Pitch; ComponentLink1Description: Manufacturer Link; ComponentLink1URL: http://www.ti.com/
footprint HV068C_N (CQFP, 68-Leads, Body 12.5x12.5mm; Pitch 0.635mm, Gullwing Leadform, IPC Medium Density)
footprint HV068C_L (CQFP, 68-Leads, Body 12.5x12.5mm; Pitch 0.635mm, Gullwing Leadform, IPC High Density)
footprint HV068C_M (CQFP, 68-Leads, Body 12.5x12.5mm; Pitch 0.635mm, Gullwing Leadform, IPC Low Density)
3D model SNJ54LVTH182502A-HV068 (68-Pin Ceramic Quad Flat Pack 0.635 mm Pitch)
pins: 2 VCC (power), 3 TDO (hiz), 4 1CLKAB (in), 5 1LEAB (in), 6 GND (power), 7 ~{1OEAB} (in), 8 1A1 (io), 9 1A2 (io), 10 1A3 (io), 11 1A4 (io), 12 1A5 (io), 13 GND (power), 14 1A6 (io), 15 1A7 (io), 16 1A8 (io), 17 1A9 (io), 19 VCC (power), 20 2A1 (io), 21 2A2 (io), 22 2A3 (io), 23 GND (power), 24 2A4 (io), 25 2A5 (io), 26 2A6 (io), 27 2A7 (io), 28 2A8 (io), 29 2A9 (io), 30 GND (power), 31 ~{2OEAB} (in), 32 2LEAB (in), 33 2CLKAB (in), 34 TDI (in), 36 VCC (power), 37 TCK (in), 38 2CLKBA (in), 39 2LEBA (in), 40 GND (power), 41 ~{2OEBA} (in), 42 2B9 (io), 43 2B8 (io), 44 2B7 (io), 45 2B6 (io), 46 2B5 (io), 47 GND (power), 48 2B4 (io), 49 2B3 (io), 50 2B2 (io), 51 2B1 (io), 53 VCC (power), 54 1B9 (io), 55 1B8 (io), 56 1B7 (io), 57 GND (power), 58 1B6 (io), 59 1B5 (io), 60 1B4 (io), 61 1B3 (io), 62 1B2 (io), 63 1B1 (io), 64 GND (power), 65 ~{1OEBA} (in), 66 1LEBA (in), 67 1CLKBA (in), 68 TMS (in)

## SNJ54LVTH182504AHV
designator U?
3.3-V ABT Scan Test Device with 20-Bit Universal Bus Transceiver; Note: Pins 1, 18, 35 and 52 - No Connection and not drawn; Published: 8-Jun-2000; LatestRevisionDate: 13-Apr-2006; LatestRevisionNote: IPC-7351 Footprint Added.; DatasheetVersion: Jun-1997; PackageVersion: Oct-1996; PackageReference: HV068C; Publisher: Altium Limited; PackageDescription: 68-Pin Ceramic Quad Flat Pack 0.635 mm Pitch; ComponentLink1Description: Manufacturer Link; ComponentLink1URL: http://www.ti.com/
footprint HV068C_N (CQFP, 68-Leads, Body 12.5x12.5mm; Pitch 0.635mm, Gullwing Leadform, IPC Medium Density)
footprint HV068C_L (CQFP, 68-Leads, Body 12.5x12.5mm; Pitch 0.635mm, Gullwing Leadform, IPC High Density)
footprint HV068C_M (CQFP, 68-Leads, Body 12.5x12.5mm; Pitch 0.635mm, Gullwing Leadform, IPC Low Density)
3D model SNJ54LVTH182504A-HV068 (68-Pin Ceramic Quad Flat Pack 0.635 mm Pitch)
pins: 2 VCC (power), 3 TDO (hiz), 4 LEBA (in), 5 ~{OEBA} (in), 6 GND (power), 7 A1 (io), 8 A2 (io), 9 A3 (io), 10 A4 (io), 11 A5 (io), 12 A6 (io), 13 GND (power), 14 A7 (io), 15 A8 (io), 16 A9 (io), 17 A10 (io), 19 VCC (power), 20 A11 (io), 21 A12 (io), 22 A13 (io), 23 GND (power), 24 A14 (io), 25 A15 (io), 26 A16 (io), 27 A17 (io), 28 A18 (io), 29 A19 (io), 30 GND (power), 31 A20 (io), 32 ~{CLKENAB} (in), 33 CLKAB (in), 34 TDI (in), 36 VCC (power), 37 TCK (in), 38 LEAB (in), 39 ~{OEAB} (in), 40 GND (power), 41 B20 (io), 42 B19 (io), 43 B18 (io), 44 B17 (io), 45 B16 (io), 46 B15 (io), 47 GND (power), 48 B14 (io), 49 B13 (io), 50 B12 (io), 51 B11 (io), 53 VCC (power), 54 B10 (io), 55 B9 (io), 56 B8 (io), 57 GND (power), 58 B7 (io), 59 B6 (io), 60 B5 (io), 61 B4 (io), 62 B3 (io), 63 B2 (io), 64 GND (power), 65 B1 (io), 66 ~{CLKENBA} (in), 67 CLKBA (in), 68 TMS (in)

## SNJ54LVTH182516HKC
designator U?
3.3-V ABT Scan Test Device with 18-Bit Universal Bus Transceiver; Note: Pins 3 and 37 - No Connection and not drawn; Published: 8-Jun-2000; LatestRevisionDate: 06-Jun-2005; LatestRevisionNote: Stylized 3D Model Added.; DatasheetVersion: Jun-1997; PackageVersion: Jan-1997; PackageReference: HKC064; Publisher: Altium Limited; PackageDescription: DFP; 64 Leads; Body 19.4 x 11.3 mm (LxW max); Pitch 0.5 mm; ComponentLink1Description: Manufacturer Link; ComponentLink1URL: http://www.ti.com/
footprint HKC064 (DFP; 64 Leads; Body 19.4 x 11.3 mm (LxW max); Pitch 0.5 mm)
3D model HKC064 (DFP; 64 Leads; Body 19.4 x 11.3 mm (LxW max); Pitch 0.5 mm)
pins: 1 LEBA (in), 2 ~{OEBA} (in), 4 A1 (io), 5 A2 (io), 6 GND (power), 7 A3 (io), 8 A4 (io), 9 A5 (io), 10 VCC (power), 11 A6 (io), 12 A7 (io), 13 A8 (io), 14 GND (power), 15 A9 (io), 16 A10 (io), 17 A11 (io), 18 A12 (io), 19 GND (power), 20 A13 (io), 21 A14 (io), 22 A15 (io), 23 VCC (power), 24 A16 (io), 25 A17 (io), 26 A18 (io), 27 GND (power), 28 SAB (in), 29 ~{CLKENAB} (in), 30 CLKAB (in), 31 TDO (hiz), 32 TMS (in), 33 TCK (in), 34 TDI (in), 35 LEAB (in), 36 ~{OEAB} (in), 38 GND (power), 39 B18 (io), 40 B17 (io), 41 B16 (io), 42 VCC (power), 43 B15 (io), 44 B14 (io), 45 B13 (io), 46 GND (power), 47 B12 (io), 48 B11 (io), 49 B10 (io), 50 B9 (io), 51 GND (power), 52 B8 (io), 53 B7 (io), 54 B6 (io), 55 VCC (power), 56 B5 (io), 57 B4 (io), 58 B3 (io), 59 GND (power), 60 B2 (io), 61 B1 (io), 62 SBA (in), 63 ~{CLKENBA} (in), 64 CLKBA (in)

## SNJ54LVTH182516HV
designator U?
3.3-V ABT Scan Test Device with 18-Bit Universal Bus Transceiver; Note: Pins 1, 4, 18, 35, 40 and 52 - No Connection and not drawn; Published: 8-Jun-2000; LatestRevisionDate: 13-Apr-2006; LatestRevisionNote: IPC-7351 Footprint Added.; DatasheetVersion: Jun-1997; PackageVersion: Oct-1996; PackageReference: HV068C; Publisher: Altium Limited; PackageDescription: 68-Pin Ceramic Quad Flat Pack 0.635 mm Pitch; ComponentLink1Description: Manufacturer Link; ComponentLink1URL: http://www.ti.com/
footprint HV068C_N (CQFP, 68-Leads, Body 12.5x12.5mm; Pitch 0.635mm, Gullwing Leadform, IPC Medium Density)
footprint HV068C_L (CQFP, 68-Leads, Body 12.5x12.5mm; Pitch 0.635mm, Gullwing Leadform, IPC High Density)
footprint HV068C_M (CQFP, 68-Leads, Body 12.5x12.5mm; Pitch 0.635mm, Gullwing Leadform, IPC Low Density)
3D model SNJ54LVTH182516-HV068 (68-Pin Ceramic Quad Flat Pack 0.635 mm Pitch)
pins: 2 LEBA (in), 3 ~{OEBA} (in), 5 A1 (io), 6 A2 (io), 7 GND (power), 8 A3 (io), 9 A4 (io), 10 A5 (io), 11 VCC (power), 12 A6 (io), 13 A7 (io), 14 A8 (io), 15 GND (power), 16 A9 (io), 17 A10 (io), 19 A11 (io), 20 A12 (io), 21 GND (power), 22 A13 (io), 23 A14 (io), 24 A15 (io), 25 VCC (power), 26 A16 (io), 27 A17 (io), 28 A18 (io), 29 GND (power), 30 SAB (in), 31 ~{CLKENAB} (in), 32 CLKAB (in), 33 TDO (hiz), 34 TMS (in), 36 TCK (in), 37 TDI (in), 38 LEAB (in), 39 ~{OEAB} (in), 41 GND (power), 42 B18 (io), 43 B17 (io), 44 B16 (io), 45 VCC (power), 46 B15 (io), 47 B14 (io), 48 B13 (io), 49 GND (power), 50 B12 (io), 51 B11 (io), 53 B10 (io), 54 B9 (io), 55 GND (power), 56 B8 (io), 57 B7 (io), 58 B6 (io), 59 VCC (power), 60 B5 (io), 61 B4 (io), 62 B3 (io), 63 GND (power), 64 B2 (io), 65 B1 (io), 66 SBA (in), 67 ~{CLKENBA} (in), 68 CLKBA (in)

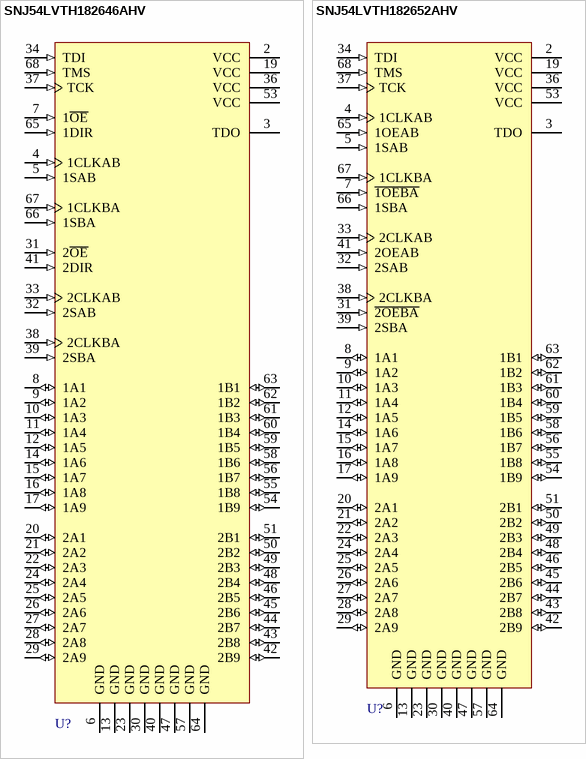
[diagram p12: symbols SNJ54LVTH182646AHV to SNJ54LVTH182652AHV]

## SNJ54LVTH182646AHV
designator U?
3.3-V ABT Scan Test Device with 18-Bit Transceiver and Register; Note: Pins 1, 18, 35 and 52 - No Connection and not drawn; Published: 8-Jun-2000; LatestRevisionDate: 13-Apr-2006; LatestRevisionNote: IPC-7351 Footprint Added.; DatasheetVersion: Jun-1997; PackageVersion: Oct-1996; PackageReference: HV068C; Publisher: Altium Limited; PackageDescription: 68-Pin Ceramic Quad Flat Pack 0.635 mm Pitch; ComponentLink1Description: Manufacturer Link; ComponentLink1URL: http://www.ti.com/
footprint HV068C_N (CQFP, 68-Leads, Body 12.5x12.5mm; Pitch 0.635mm, Gullwing Leadform, IPC Medium Density)
footprint HV068C_L (CQFP, 68-Leads, Body 12.5x12.5mm; Pitch 0.635mm, Gullwing Leadform, IPC High Density)
footprint HV068C_M (CQFP, 68-Leads, Body 12.5x12.5mm; Pitch 0.635mm, Gullwing Leadform, IPC Low Density)
3D model SNJ54LVTH182646A-HV068 (68-Pin Ceramic Quad Flat Pack 0.635 mm Pitch)
pins: 2 VCC (power), 3 TDO (hiz), 4 1CLKAB (in), 5 1SAB (in), 6 GND (power), 7 1~{OE} (in), 8 1A1 (io), 9 1A2 (io), 10 1A3 (io), 11 1A4 (io), 12 1A5 (io), 13 GND (power), 14 1A6 (io), 15 1A7 (io), 16 1A8 (io), 17 1A9 (io), 19 VCC (power), 20 2A1 (io), 21 2A2 (io), 22 2A3 (io), 23 GND (power), 24 2A4 (io), 25 2A5 (io), 26 2A6 (io), 27 2A7 (io), 28 2A8 (io), 29 2A9 (io), 30 GND (power), 31 2~{OE} (in), 32 2SAB (in), 33 2CLKAB (in), 34 TDI (in), 36 VCC (power), 37 TCK (in), 38 2CLKBA (in), 39 2SBA (in), 40 GND (power), 41 2DIR (in), 42 2B9 (io), 43 2B8 (io), 44 2B7 (io), 45 2B6 (io), 46 2B5 (io), 47 GND (power), 48 2B4 (io), 49 2B3 (io), 50 2B2 (io), 51 2B1 (io), 53 VCC (power), 54 1B9 (io), 55 1B8 (io), 56 1B7 (io), 57 GND (power), 58 1B6 (io), 59 1B5 (io), 60 1B4 (io), 61 1B3 (io), 62 1B2 (io), 63 1B1 (io), 64 GND (power), 65 1DIR (in), 66 1SBA (in), 67 1CLKBA (in), 68 TMS (in)

## SNJ54LVTH182652AHV
designator U?
3.3-V ABT Scan Test Device with 18-Bit Transceiver and Register; Note: Pins 1, 18, 35 and 52 - No Connection and not drawn; Published: 8-Jun-2000; LatestRevisionDate: 13-Apr-2006; LatestRevisionNote: IPC-7351 Footprint Added.; DatasheetVersion: Jul-1996; PackageVersion: Oct-1996; PackageReference: HV068C; Publisher: Altium Limited; PackageDescription: 68-Pin Ceramic Quad Flat Pack 0.635 mm Pitch; ComponentLink1Description: Manufacturer Link; ComponentLink1URL: http://www.ti.com/
footprint HV068C_N (CQFP, 68-Leads, Body 12.5x12.5mm; Pitch 0.635mm, Gullwing Leadform, IPC Medium Density)
footprint HV068C_L (CQFP, 68-Leads, Body 12.5x12.5mm; Pitch 0.635mm, Gullwing Leadform, IPC High Density)
footprint HV068C_M (CQFP, 68-Leads, Body 12.5x12.5mm; Pitch 0.635mm, Gullwing Leadform, IPC Low Density)
3D model SNJ54LVTH182652A-HV068 (68-Pin Ceramic Quad Flat Pack 0.635 mm Pitch)
pins: 2 VCC (power), 3 TDO (hiz), 4 1CLKAB (in), 5 1SAB (in), 6 GND (power), 7 ~{1OEBA} (in), 8 1A1 (io), 9 1A2 (io), 10 1A3 (io), 11 1A4 (io), 12 1A5 (io), 13 GND (power), 14 1A6 (io), 15 1A7 (io), 16 1A8 (io), 17 1A9 (io), 19 VCC (power), 20 2A1 (io), 21 2A2 (io), 22 2A3 (io), 23 GND (power), 24 2A4 (io), 25 2A5 (io), 26 2A6 (io), 27 2A7 (io), 28 2A8 (io), 29 2A9 (io), 30 GND (power), 31 ~{2OEBA} (in), 32 2SAB (in), 33 2CLKAB (in), 34 TDI (in), 36 VCC (power), 37 TCK (in), 38 2CLKBA (in), 39 2SBA (in), 40 GND (power), 41 2OEAB (in), 42 2B9 (io), 43 2B8 (io), 44 2B7 (io), 45 2B6 (io), 46 2B5 (io), 47 GND (power), 48 2B4 (io), 49 2B3 (io), 50 2B2 (io), 51 2B1 (io), 53 VCC (power), 54 1B9 (io), 55 1B8 (io), 56 1B7 (io), 57 GND (power), 58 1B6 (io), 59 1B5 (io), 60 1B4 (io), 61 1B3 (io), 62 1B2 (io), 63 1B1 (io), 64 GND (power), 65 1OEAB (in), 66 1SBA (in), 67 1CLKBA (in), 68 TMS (in)